# Altium footprint library PCB - BUTTONS - C&K PTS526.PCBLIB: 1 footprints
Each footprint in its own frame and in the unit in brackets; x right, y up, seen from the top. Pads: shape width x height; smd on the part's side, far side on the other; paste and mask are expansions set on the pad; w line width, h text height; cw(c..) or ccw(c..) is an arc to the next point about the centre after c.
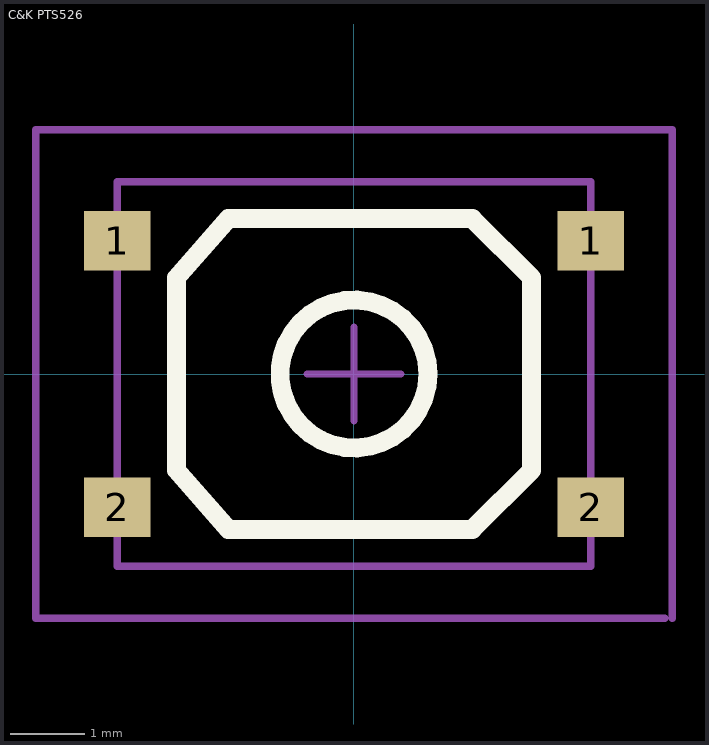
[diagram p0: the footprint, top view; thin cyan lines are the x and y axes]

## C&K PTS526 [mm]
height 7.11
pads (4):
  rect 0.9x0.8 smd: 1(-3.2,1.8) 1(3.2,1.8) 2(-3.2,-1.8) 2(3.2,-1.8)
Top Overlay:
  circle w0.254: c0,0 r1
  lines w0.254: -2.4,-1.3 -2.4,1.3 -1.7,2.1 1.6,2.1 2.4,1.3 2.4,-1.3 1.6,-2.1 -1.7,-2.1 -2.4,-1.3
Mechanical 1:
  lines w0.1: -3.2,-2.6 -3.2,2.6 3.2,2.6 3.2,-2.6 -3.2,-2.6
Mechanical 15:
  lines w0.1: -0.635,0 0.635,0 ; 0,-0.635 0,0.635 ; 4.2,-3.3 -4.3,-3.3 -4.3,3.3 4.3,3.3 4.3,-3.3
3D body "TS-1087S-020.stp": height 2, standoff 0, extent -3.2,-2.6 3.2,2.6